# EAGLE library part AD7380-4BCPZ (library AD7380-4BCPZ)
AD7380-4BCPZ Source: Datasheet <https://www.mouser.de/datasheet/2/609/ad7380_4-2821747.pdf>
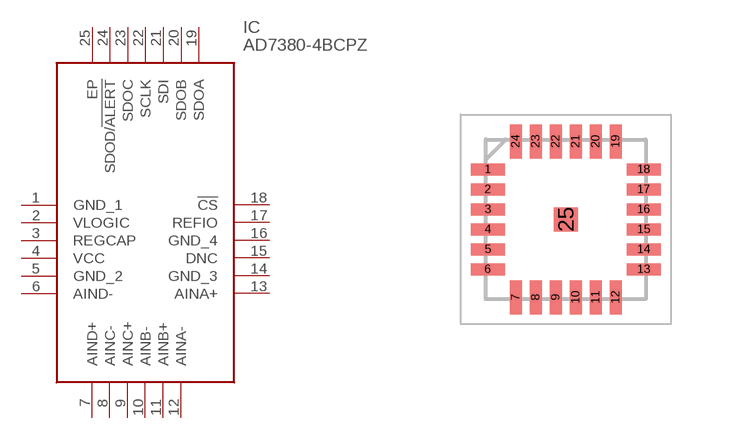
[diagram p0: symbol with the pads of QFN50P400X400X60-25N; footprint QFN50P400X400X60-25N]

Designator prefix IC

## AD7380-4BCPZ (Description: AD7380-4BCPZ; Height: 0.6mm; Manufacturer_Name: Analog Devices; Manufacturer_Part_Number: AD7380-4BCPZ; Mouser_Part_Number: 584-AD7380-4BCPZ; Mouser_Price-Stock: https://www.mouser.co.uk/ProductDetail/Analog-Devices/AD7380-4BCPZ?qs=pUKx8fyJudDRIFEK2AiXQg%3D%3D)  [QFN50P400X400X60-25N]
1  GND_1
2  VLOGIC
3  REGCAP
4  VCC
5  GND_2
6  AIND-
7  AIND+
8  AINC-
9  AINC+
10  AINB-
11  AINB+
12  AINA-
13  AINA+
14  GND_3
15  DNC
16  GND_4
17  REFIO
18  !CS
19  SDOA
20  SDOB
21  SDI
22  SCLK
23  SDOC
24  SDOD/!ALERT
25  EP

## Footprint QFN50P400X400X60-25N (pad centres in mm)
AD7380-4BCPZ
smd 0.85 x 0.3: 1 -1.95,1.25; 2 -1.95,0.75; 3 -1.95,0.25; 4 -1.95,-0.25; 5 -1.95,-0.75; 6 -1.95,-1.25; 13 1.95,-1.25; 14 1.95,-0.75; 15 1.95,-0.25; 16 1.95,0.25; 17 1.95,0.75; 18 1.95,1.25
smd 0.3 x 0.85: 7 -1.25,-1.95; 8 -0.75,-1.95; 9 -0.25,-1.95; 10 0.25,-1.95; 11 0.75,-1.95; 12 1.25,-1.95; 19 1.25,1.95; 20 0.75,1.95; 21 0.25,1.95; 22 -0.25,1.95; 23 -0.75,1.95; 24 -1.25,1.95
smd 0.6 x 0.6: 25 0,0